# Altium schematic symbol library 2SK2645.SchLib: 1 symbol
Pins are listed as number, name and electrical type; pins without a type are passive.

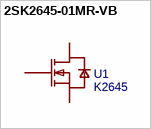
[diagram p0: symbol 2SK2645-01MR-VB]

## 2SK2645-01MR-VB
designator U1, comment K2645
Manufacturer: VBsemi(微碧半导体); Manufacturer Part: 2SK2645-01MR-VB; Contributor: lcsc; Supplier: LCSC; Supplier Part: C19190251; spicePre: U; spiceSymbolName: 2SK2645-01MR-VB
footprint TO-220-3_L10.5-W4.8-P2.54-L
pins: 1 G, 2 D, 3 S